# EAGLE library part USB-ID (library kmod-connectors)
USB Connectors Got from SparkFun, removed all but MICROB. Used that successfully. no mounting holes - I think this footprint will work for micro-A/B/AB connectors. haven't tested it yet on anything other than B.
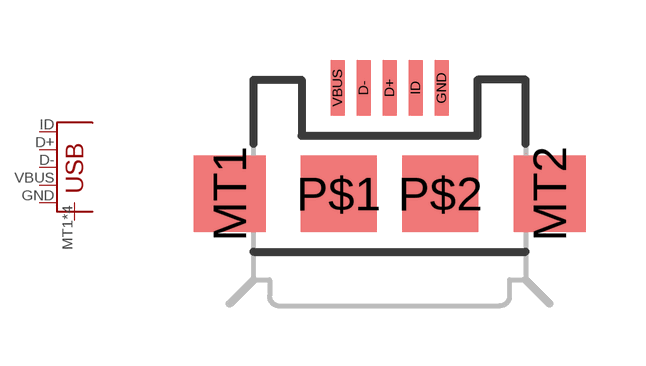
[diagram p6: symbol with the pads of USB-MICRO; footprint USB-MICRO]

Designator prefix JP

## USB-IDMICRO (PROD_ID: CONN-09505)  [USB-MICRO]
D+  D+
D-  D-
GND  GND
ID  ID
MT1  SHELL
MT2  SHELL
P$1  SHELL
P$2  SHELL
VBUS  VBUS

## Footprint USB-MICRO (pad centres in mm)
Micro USB Package I've had this work for Micro-B; I think the footprint is standard though?
smd 0.35 x 1.4: D+ 0,2.65; D- -0.65,2.65; GND 1.3,2.65; ID 0.65,2.65; VBUS -1.3,2.65
smd 1.8 x 1.9: MT1 -4,0; MT2 4,0
smd 1.9 x 1.9: P$1 -1.27,0; P$2 1.27,0